# Altium footprint library MCU.PcbLib: 52 footprints (part 1 of 4)
Each footprint in its own frame and in the unit in brackets; x right, y up, seen from the top. Pads: shape width x height; smd on the part's side, far side on the other; paste and mask are expansions set on the pad; w line width, h text height; cw(c..) or ccw(c..) is an arc to the next point about the centre after c.
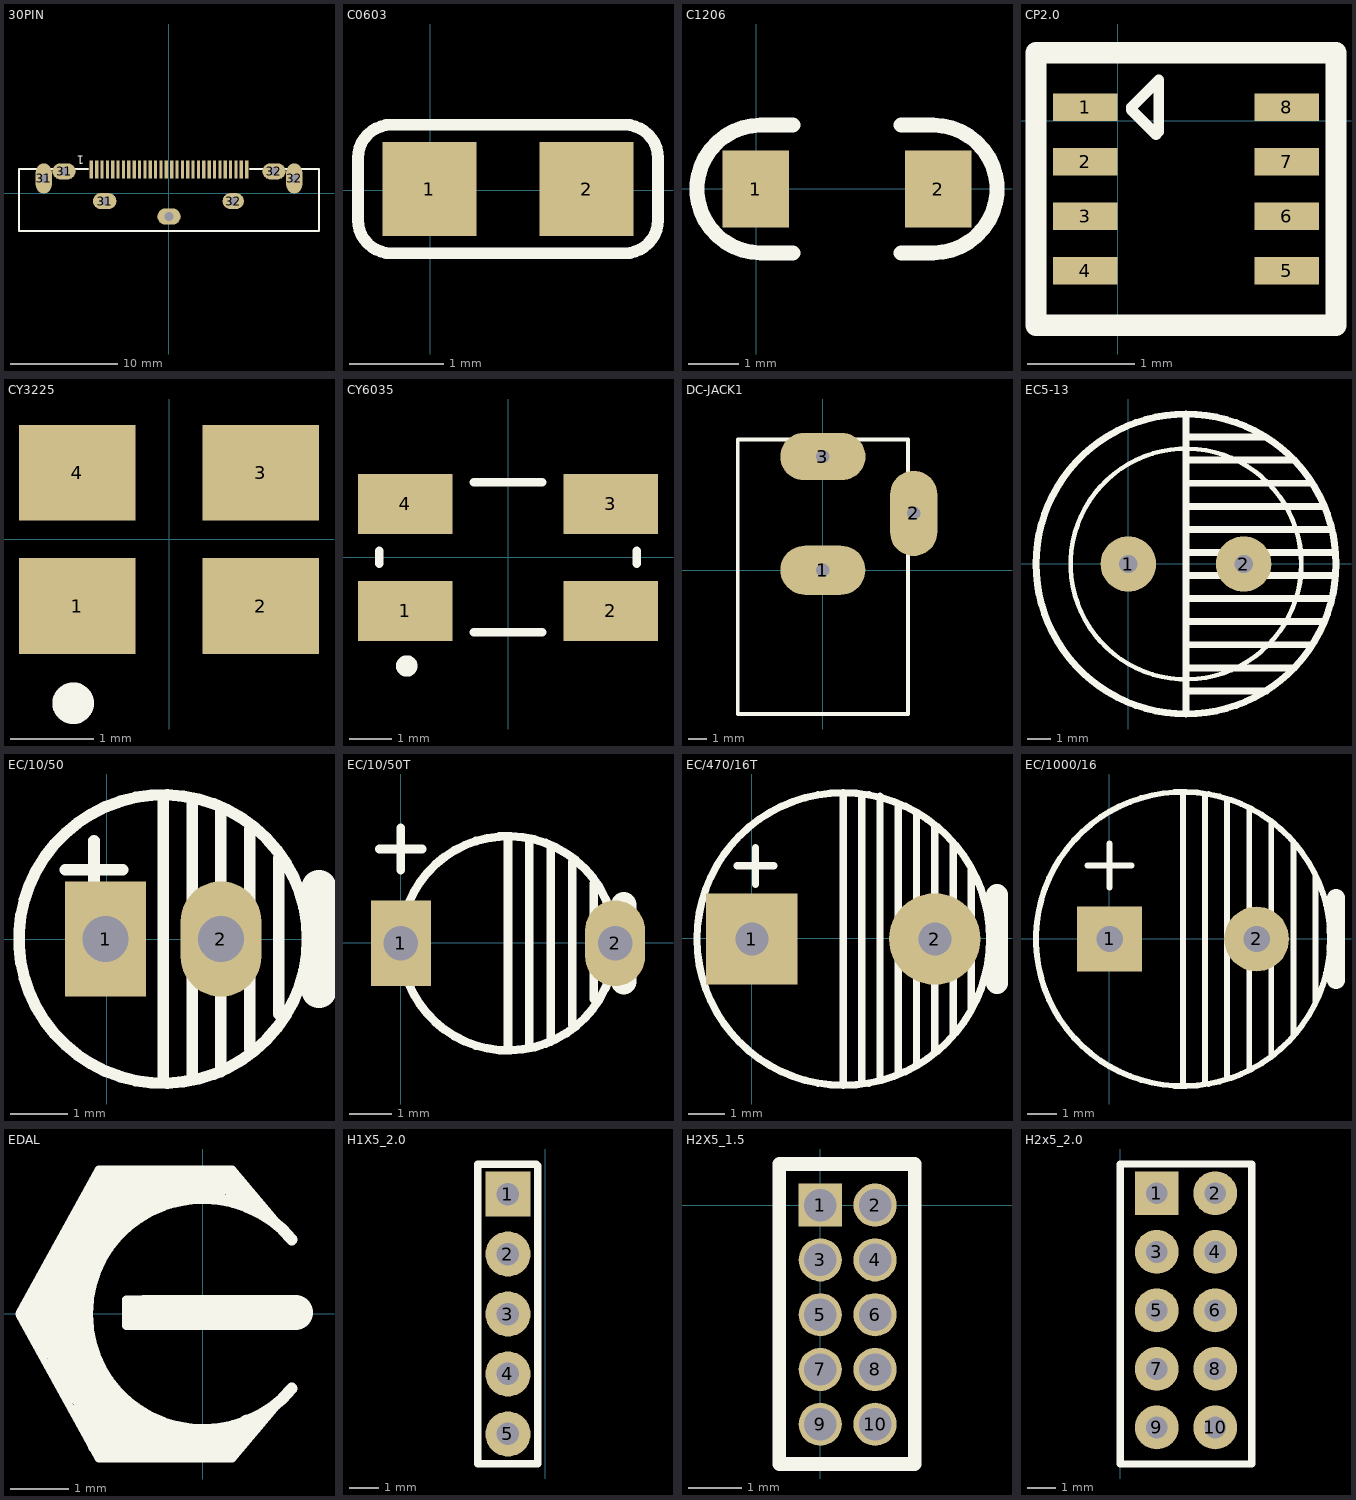
[diagram p0: the footprints below, top view; thin cyan lines are the x and y axes]

## 30PIN [mm]
pads (37):
  rect 0.3x1.7 smd: 1(-7.246,2.22) 2(-6.746,2.22) 3(-6.246,2.22) 4(-5.746,2.22) 5(-5.246,2.22) 6(-4.746,2.22) 7(-4.246,2.22) 8(-3.746,2.22) 9(-3.246,2.22) 10(-2.746,2.22) 11(-2.246,2.22) 12(-1.746,2.22) 13(-1.246,2.22) 14(-0.746,2.22) 15(-0.246,2.22) 16(0.254,2.22) 17(0.754,2.22) 18(1.254,2.22) 19(1.754,2.22) 20(2.254,2.22) 21(2.754,2.22) 22(3.254,2.22) 23(3.754,2.22) 24(4.254,2.22) 25(4.754,2.22) 26(5.254,2.22) 27(5.754,2.22) 28(6.254,2.22) 29(6.754,2.22) 30(7.254,2.22)
  oval 1.5x2.8 hole 0.8: 31(-11.686,1.37) 32(11.694,1.37)
  oval 2.2x1.5 hole 0.8: 31(-9.796,2.04) 31(-5.996,-0.74) 32(9.804,2.04) ""(0.004,-2.18)
  oval 2x1.5 hole 0.8: 32(6.004,-0.74)
Top Overlay:
  lines w0.2: -12.136,2.26 -13.996,2.26 -13.996,-3.52 14.004,-3.52 14.004,2.26 12.124,2.26 ; -11.266,2.26 -10.776,2.26 ; -8.806,2.26 -7.576,2.26 ; 7.574,2.26 8.814,2.26 ; 10.784,2.26 11.274,2.26
  text "1" at -7.905,3.497 h0.8
Mechanical 1:
  lines w0.1: -12.036,0.72 -12.036,2.02 -11.336,2.02 -11.336,0.72 -12.036,0.72 ; -10.446,1.69 -10.446,2.39 -9.146,2.39 -9.146,1.69 -10.446,1.69 ; -6.646,-1.09 -5.346,-1.09 -5.346,-0.39 -6.646,-0.39 -6.646,-1.09 ; -0.646,-2.53 0.654,-2.53 0.654,-1.83 -0.646,-1.83 -0.646,-2.53 ; 5.354,-1.09 6.654,-1.09 6.654,-0.39 5.354,-0.39 5.354,-1.09 ; 9.154,1.69 10.454,1.69 10.454,2.39 9.154,2.39 9.154,1.69 ; 11.344,0.72 12.044,0.72 12.044,2.02 11.344,2.02 11.344,0.72

## C0603 [mm]
pads (2):
  rect 1x1 smd: 1(-0.011,0.011) 2(1.665,0.011)
Top Overlay:
  lines w0.127: -0.418,-0.675 cw(c-0.418,-0.319) -0.773,-0.319 -0.773,0.341 cw(c-0.418,0.341) -0.418,0.697 2.071,0.697 cw(c2.071,0.341) 2.427,0.341 2.427,-0.319 cw(c2.071,-0.319) 2.071,-0.675 ; -0.392,-0.675 2.046,-0.675

## C1206 [mil]
pads (2):
  rect 52.13x60 smd: 1(-0.41,-0.37) 2(142.46,-0.37)
Top Overlay:
  lines w11.81: 28.53,-50.37 3.53,-50.37 cw(c3.53,-0.37) 3.53,49.63 28.53,49.63 ; 113.53,-50.37 138.53,-50.37 ccw(c138.53,-0.37) 138.53,49.63 113.53,49.63

## CP2.0 [mil]
height 39.37
pads (8):
  rect 23.62x10 smd: 1(-12,5) 2(-12,-15) 3(-12,-35) 4(-12,-55) 5(62,-55) 6(62,-35) 7(62,-15) 8(62,5)
Top Overlay:
  lines w3.94: 5,4 14,-5 15,-4 15,15 5,5 5,4
  lines w7.87: -30,-75 -30,25 80,25 80,-75 -30,-75

## CY3225 [mm] "Quartz Crystal, SM; Body 3.4 x 2.7 mm (LxW max)"
height 1
pads (4):
  rect 1.4x1.15 smd: 1(-1.1,-0.8) 2(1.1,-0.8) 3(1.1,0.8) 4(-1.1,0.8)
Top Overlay:
  circle w0.25: c-1.15,-1.967 r0.125

## CY6035 [mm] "Quartz Crystal, SM; Body 6.0 x 3.5 mm (LxW)"
height 1
pads (4):
  rect 2.2x1.4 smd: 1(-2.4,-1.25) 2(2.4,-1.25) 3(2.4,1.25) 4(-2.4,1.25)
Top Overlay:
  circle w0.25: c-2.362,-2.534 r0.125
  lines w0.2: -3,-0.15 -3,0.15 ; -0.8,-1.75 0.8,-1.75 ; -0.8,1.75 0.8,1.75 ; 3,-0.15 3,0.15

## DC-JACK1 [mm]
pads (3):
  oval 4.5x2.6 hole 0.7: 1(0.013,0.001)
  oval 2.5x4.5 hole 0.7: 2(4.813,3.001)
  oval 4.5x2.5 hole 0.7: 3(0.013,6.001)
Top Overlay:
  lines w0.2: -4.487,-7.599 -4.487,6.901 4.513,6.901 4.513,-7.599 -4.487,-7.599
Bottom Overlay:
  lines w0.3: -4.487,-7.549 -4.487,6.901 4.513,6.901 4.513,-7.549 4.463,-7.599 -4.437,-7.599
Bottom Solder:
  lines w0.5: -1.387,5.501 -1.387,6.601 ; -1.347,-0.839 -1.347,1.001 ; 1.513,-0.599 1.513,1.001 ; 1.513,5.061 1.513,6.841 ; 3.973,4.501 5.513,4.501 ; 4.173,1.601 5.513,1.601
  lines w1: -1.987,-0.879 1.953,-0.879 ; -1.987,1.001 -1.347,1.001 2.033,1.001 ; -1.967,-0.819 -1.967,0.961 ; -1.667,6.841 1.953,6.841 1.953,5.061 -1.987,5.061 -1.987,6.841 -1.347,6.841 ; 2.073,-0.819 2.073,0.961 ; 3.973,1.321 3.973,4.941 5.753,4.941 5.753,1.001 3.973,1.001 3.973,1.641
Mechanical 1:
  lines w0.2: -1.587,5.601 -1.587,6.401 1.613,6.401 1.613,5.601 -1.587,5.601 ; -1.337,-0.399 -1.337,0.401 1.363,0.401 1.363,-0.399 -1.337,-0.399 ; 4.413,1.701 5.213,1.701 5.213,4.401 4.413,4.401 4.413,1.701
Drill Drawing:
  text "0.8*2.7" at -2.13,-1.803 h1
  text "0.8*3.2" at -2.452,4.329 h1
  text "0.8*2.7" at 5.698,5.235 h1

## EC5-13 [mm]
pads (2):
  round 2.4 hole 0.8: 1(0.011,-0.009) 2(5.011,-0.009)
Top Overlay:
  circle w0.2: c2.511,-0.009 r5
  circle w0.3: c2.511,-0.009 r6.5
  lines w0.3: 2.511,-6.509 2.511,6.491 ; 2.511,-5.509 6.011,-5.509 ; 2.511,-4.509 7.211,-4.509 ; 2.511,-3.509 7.911,-3.509 ; 2.511,-2.509 8.511,-2.509 ; 2.511,-1.509 8.811,-1.509 ; 2.511,-0.509 8.911,-0.509 ; 2.511,0.491 8.911,0.491 ; 2.511,1.491 8.811,1.491 ; 2.511,2.491 8.511,2.491 ; 2.511,3.491 7.911,3.491 ; 2.511,4.491 7.211,4.491 ; 2.511,5.491 5.911,5.491
Bottom Overlay:
  lines w0.2: -0.989,2.891 1.011,2.891 ; 0.011,1.891 0.011,3.891

## EC/10/50 [mm]
pads (2):
  rect 1.4x2 hole 0.8: 1(-0.018,0.007)
  oval 1.4x2 hole 0.8: 2(1.982,0.007)
Top Overlay:
  circle w0.2: c0.982,0.007 r2.5
  circle w0.2: c1.982,0.007 r0.5
  lines w0.2: -0.718,1.207 0.282,1.207 ; -0.218,0.707 -0.218,1.707 ; 0.982,-2.393 0.982,2.407 ; 1.482,-2.393 1.482,2.407 ; 1.982,-2.293 1.982,-0.493 ; 1.982,0.507 1.982,2.207 ; 2.482,-1.893 2.482,1.907 ; 2.982,-1.293 2.982,1.407
  lines w0.6: 3.682,-0.893 3.682,0.907

## EC/10/50T [mm]
pads (2):
  rect 1.4x2 hole 0.8: 1(-0.002,-0.009)
  oval 1.4x2 hole 0.8: 2(4.998,-0.009)
Top Overlay:
  circle w0.2: c2.498,-0.009 r2.5
  lines w0.2: -0.502,2.191 0.498,2.191 ; -0.002,1.691 -0.002,2.691 ; 2.498,-2.409 2.498,2.391 ; 2.998,-2.409 2.998,2.391 ; 3.498,-2.309 3.498,-0.509 3.498,0.491 3.498,2.191 ; 3.998,-1.909 3.998,1.891 ; 4.498,-1.309 4.498,1.391
  lines w0.6: 5.198,-0.909 5.198,0.891

## EC/470/16T [mm]
pads (2):
  rect 2.5x2.5 hole 0.9: 1(0.002,-0.014)
  round 2.5 hole 0.9: 2(5.002,-0.014)
Top Overlay:
  circle w0.2: c2.502,-0.014 r4
  lines w0.2: -0.398,1.986 0.602,1.986 ; 0.102,1.486 0.102,2.486 ; 2.502,-4.014 2.502,3.886 ; 3.002,-3.914 3.002,3.886 ; 3.502,-3.814 3.502,3.886 ; 4.002,-3.714 4.002,-0.514 4.002,0.386 4.002,3.686 ; 4.502,-3.414 4.502,-0.514 4.502,0.486 4.502,3.386 ; 5.002,-3.114 5.002,3.086 ; 5.502,-2.614 5.502,2.586 ; 6.002,-1.914 6.002,1.886
  lines w0.6: 6.702,-1.214 6.702,1.186

## EC/1000/16 [mm]
pads (2):
  rect 2.2x2.2 hole 0.9: 1(0.01,-0.001)
  round 2.2 hole 0.9: 2(5.01,-0.001)
Top Overlay:
  circle w0.2: c2.51,-0.001 r5
  circle w0.2: c5.01,-0.001 r0.5
  lines w0.2: -0.74,2.499 0.76,2.499 ; 0.01,1.749 0.01,3.249 ; 2.51,-5.001 2.51,4.999 ; 3.26,-4.926 3.26,4.899 ; 4.01,-4.726 4.01,4.724 ; 4.76,-4.451 4.76,-0.451 ; 4.76,0.449 4.76,4.449 ; 5.51,-3.976 5.51,3.949 ; 6.26,-3.251 6.26,3.249 ; 7.01,-2.101 7.01,2.149
  lines w0.6: 7.71,-1.401 7.71,1.399

## EDAL [mm]
Top Overlay:
  rectangle: -2.195,1.475 -1.926,1.744
  rectangle: -2.305,1.365 -2.08,1.59
  rectangle: -1.613,2.357 -1.073,2.497
  lines w0.1: -2.103,1.653 -2.103,1.873
  lines w0.127: -2.973,-0.303 -2.973,0.247 ; -2.973,-0.053 -3.123,-0.053 ; -2.748,-0.603 -2.573,-0.778 -2.548,-0.778 ; -2.748,-0.428 -2.748,-0.578 -2.548,-0.778 ; -2.748,-0.378 -2.898,-0.378 -2.898,-0.278 -2.898,0.172 ; -2.748,-0.078 -2.823,-0.003 -3.173,-0.003 ; -2.748,0.547 -2.748,0.472 -2.973,0.247 ; -2.548,-1.078 -2.548,-0.778 ; -2.523,0.972 -2.523,1.147 ; 1.417,-1.417 0.506,-2.503 -1.798,-2.503 -3.173,-0.003 ; 1.417,1.412 0.506,2.497 -1.798,2.497 -3.173,-0.003 ; -3.173,-0.003 -3.123,-0.053 ; -3.123,-0.053 -2.898,0.172 ; -2.973,0.247 -2.898,0.322 -2.898,0.172
  lines w0.14: -1.323,-0.203 -1.323,0.247
  lines w0.145: -1.323,-0.203 -0.898,-0.203 ; -1.323,0.247 -0.948,0.247
  lines w0.152: -2.523,0.972 -2.523,1.147 ; -2.279,1.391 -1.879,1.791 -1.879,2.319 -1.851,2.347 -1.323,2.347 ; -1.879,2.097 -1.991,1.986 -1.991,1.679 -2.523,1.147 ; -1.749,1.571 -1.749,2.449 -1.648,2.347 -0.948,2.347 ; -1.613,1.707 -1.613,2.357 -1.604,2.347 ; -1.489,1.832 -1.489,2.232 -1.604,2.347 ; -1.173,2.347 -1.073,2.247 ; -0.848,2.247 -0.948,2.347 ; -2.523,1.147 -1.323,2.347 ; -1.604,2.347 -0.948,2.347 ; -1.323,2.347 -0.948,2.347
  lines w0.2: 1.534,-1.288 cw(c0.002,-0.003) 1.534,1.283
  lines w0.254: -2.748,-0.603 -2.748,0.547 -2.548,0.747 ; -2.548,-0.778 -2.548,0.947 -2.523,0.972 ; -2.303,1.368 -2.017,1.653 -2.103,1.653 ; -2.123,-1.628 -2.123,-1.778 -1.798,-2.103 -1.798,-2.253 ; -2.073,-0.728 -1.91,-0.89 -1.91,-1.04 ; -2.073,0.697 -1.848,0.922 -1.848,1.222 ; -2.073,1.072 -2.073,-0.878 ; -1.148,1.747 -0.873,2.022 -0.823,2.022 ; -1.048,-2.253 -1.048,-2.103 -2.073,-1.078 -2.073,-0.878 ; -0.348,-2.028 -0.598,-2.028 -0.923,-2.028 -2.073,-0.878
  lines w0.381: -2.073,1.072 -1.123,2.022 -0.498,2.022 ; -1.798,-2.253 0.452,-2.253 0.777,-1.928 0.827,-1.928 ; -1.273,-2.253 -2.298,-1.228 -2.298,1.022 -1.073,2.247 0.477,2.247 0.802,1.922
  lines w0.6: -0.998,0.022 1.602,0.022

## H1X5_2.0 [mil]
pads (5):
  rect 60x60 hole 30: 1(-50,-140)
  round 60 hole 30: 2(-50,-220) 3(-50,-300) 4(-50,-380) 5(-50,-460)
Top Overlay:
  lines w10: -90,-500 -90,-100 -12,-100 -10,-102 -10,-500 -90,-500

## H2X5_1.5 [mm]
pads (10):
  rect 0.8x0.8 hole 0.6: 1(0,0)
  round 0.8 hole 0.6: 2(1.016,0) 3(0,-1.016) 4(1.016,-1.016) 5(0,-2.032) 6(1.016,-2.032) 7(0,-3.048) 8(1.016,-3.048) 9(0,-4.064) 10(1.016,-4.064)
Top Overlay:
  lines w0.254: -0.762,-4.801 1.753,-4.801 1.753,0.762 -0.762,0.762 -0.762,-4.801

## H2x5_2.0 [mil]
pads (10):
  rect 60x60 hole 30: 1(50,-100)
  round 60 hole 30: 2(130,-100) 3(50,-180) 4(130,-180) 5(50,-260) 6(130,-260) 7(50,-340) 8(130,-340) 9(50,-420) 10(130,-420)
Top Overlay:
  lines w10: 0,-470 0,-60 180,-60 180,-470 0,-470